# Altium footprint library C-M001-32_V1.0.PcbLib: 22 footprints (part 2 of 2)
Each footprint in its own frame and in the unit in brackets; x right, y up, seen from the top. Pads: shape width x height; smd on the part's side, far side on the other; paste and mask are expansions set on the pad; w line width, h text height; cw(c..) or ccw(c..) is an arc to the next point about the centre after c.
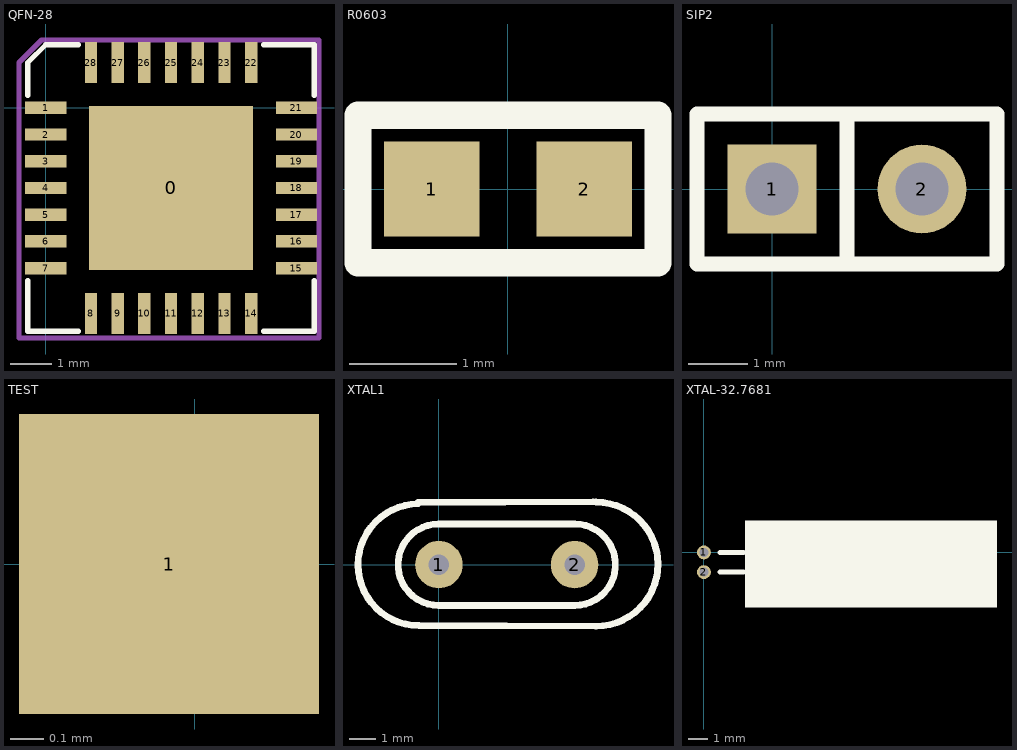
[diagram p1: the footprints below, top view; thin cyan lines are the x and y axes]

## QFN-28 [mm]
pads (29):
  rect 4x4 smd: 0(3.05,-1.95)
  rect 1x0.3 smd: 1(0,0) 2(0,-0.65) 3(0,-1.3) 4(0,-1.95) 5(0,-2.6) 6(0,-3.25) 7(0,-3.9) 15(6.1,-3.9) 16(6.1,-3.25) 17(6.1,-2.6) 18(6.1,-1.95) 19(6.1,-1.3) 20(6.1,-0.65) 21(6.1,0)
  rect 0.3x1 smd: 8(1.1,-5) 9(1.75,-5) 10(2.4,-5) 11(3.05,-5) 12(3.7,-5) 13(4.35,-5) 14(5,-5) 22(5,1.1) 23(4.35,1.1) 24(3.7,1.1) 25(3.05,1.1) 26(2.4,1.1) 27(1.75,1.1) 28(1.1,1.1)
Top Overlay:
  lines w0.127: -0.436,-4.2 -0.436,-5.437 0.8,-5.437 ; -0.436,0.3 -0.436,1.1 0,1.536 0.8,1.536 ; 5.3,-5.437 6.537,-5.437 6.537,-4.2 ; 5.3,1.536 6.537,1.537 6.537,0.3
Mechanical 14:
  lines w0.127: -0.65,-5.6 -0.65,1.1 -0.1,1.65 6.65,1.65 6.65,-5.6 -0.65,-5.6
  text ".Designator" at 1.45,-2.314 h0.5

## R0603 [mil]
pads (2):
  rect 35x35 smd: 1(-28,0) 2(28,0)
Top Overlay:
  lines w10: -55,26 -54,27 55,27 55,-27 ; -55,27 -55,-27 54,-27

## SIP2 [mm]
pads (2):
  rect 1.5x1.5 hole 0.9: 1(0,0)
  round 1.5 hole 0.9: 2(2.54,0)
Top Overlay:
  lines w0.254: 1.27,-1.25 1.27,1.27 ; -1.27,-1.27 3.81,-1.27 3.81,1.27 -1.27,1.27 -1.27,-1.27

## TEST [mil]
pads (1):
  rect 35x35 smd: 1(-3,0)

## XTAL1 [mil]
pads (2):
  round 70 hole 30: 1(0,0) 2(200,0)
Top Overlay:
  lines w10: -30.51,89.57 ccw(c-29.41,-0.06) -29.41,-89.69 231.31,-90.67 ccw(c231.31,0.73) 231.31,92.13 ; -30.51,91.54 227.37,92.64 ; 0,-60 cw(c0,0) 0,60 200,60 cw(c200,0) 200,-60 0,-60

## XTAL-32.7681 [mm]
pads (2):
  round 0.7 hole 0.45: 1(0,0) 2(0,-1)
Top Overlay:
  rectangle: 2.075,-2.8 14.85,1.625
  lines w0.254: 0.813,-1 2.007,-1 ; 0.813,0 2.007,0